# Altium footprint library General.PcbLib: 53 footprints (part 2 of 4)
Each footprint in its own frame and in the unit in brackets; x right, y up, seen from the top. Pads: shape width x height; smd on the part's side, far side on the other; paste and mask are expansions set on the pad; w line width, h text height; cw(c..) or ccw(c..) is an arc to the next point about the centre after c.
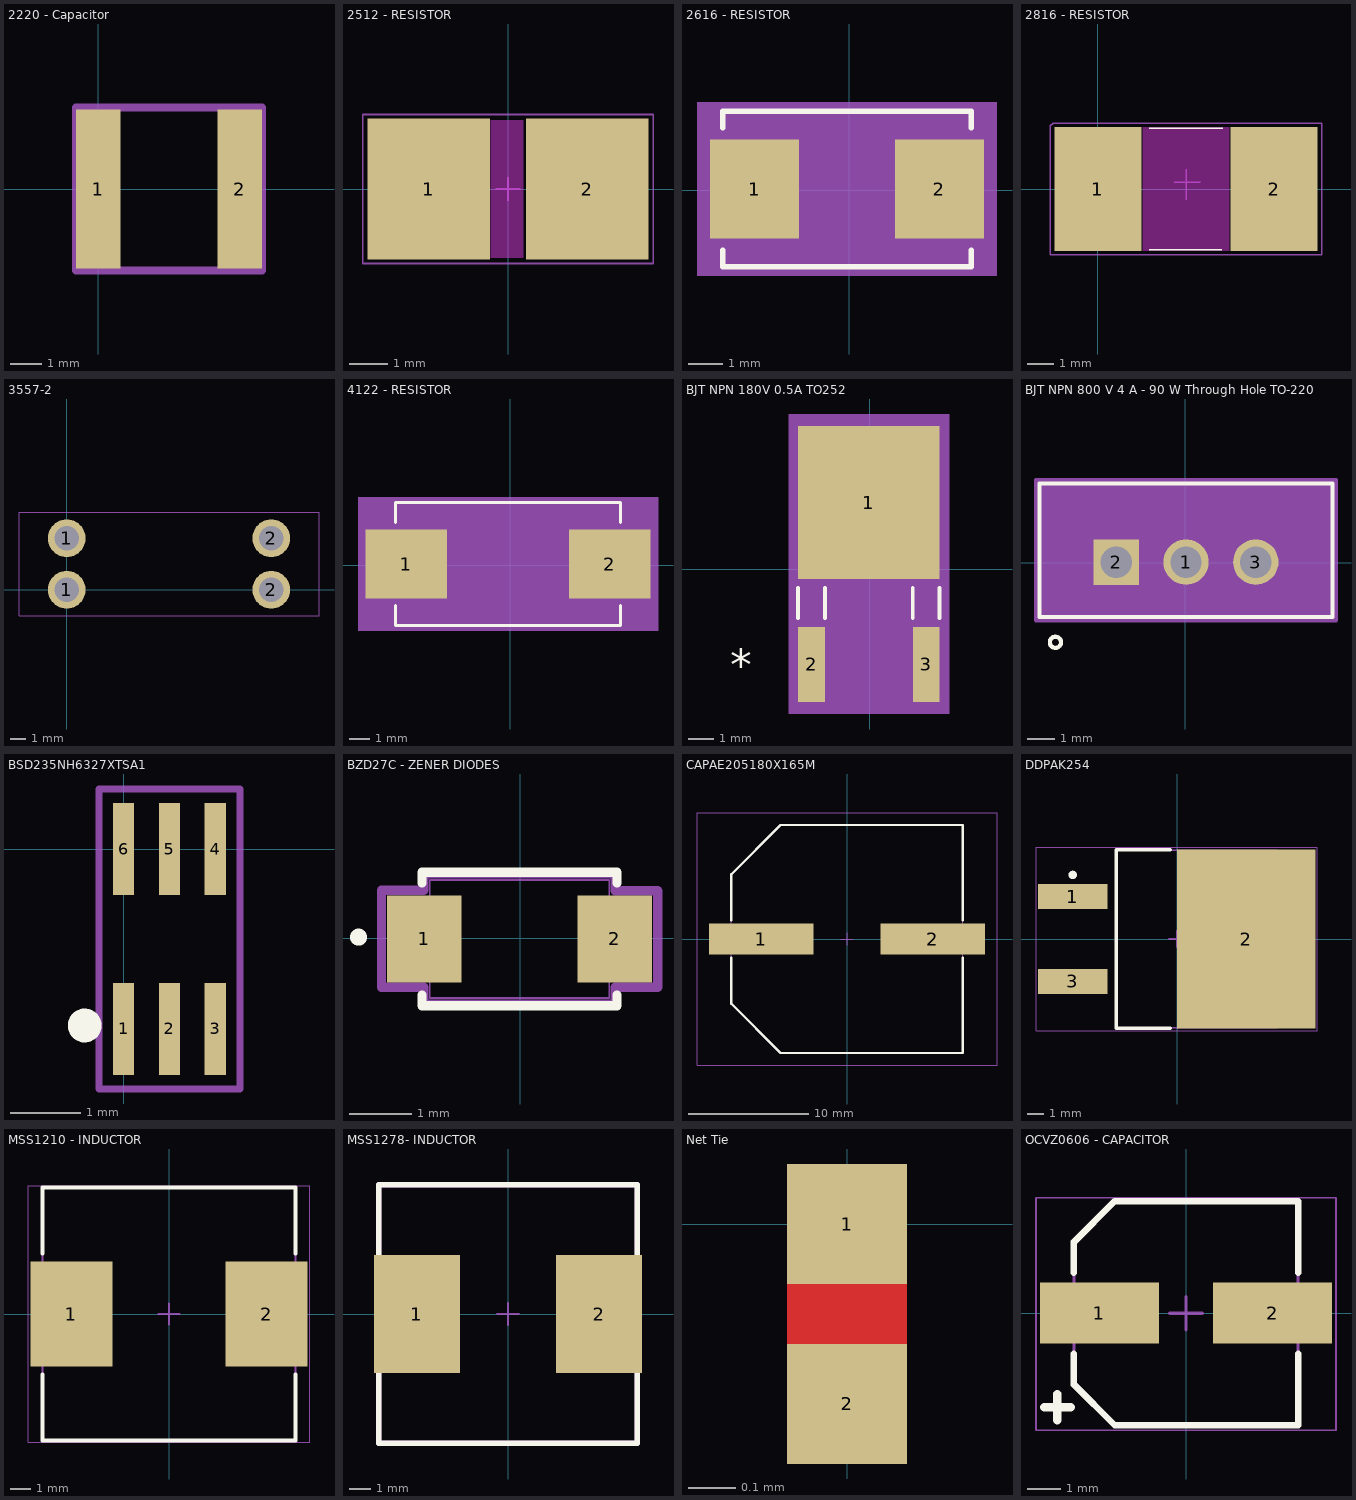
[diagram p1: the footprints below, top view; thin cyan lines are the x and y axes]

## 2220 - Capacitor [mm] "2220 Chip Capacitor - IPC Medium Density"
pads (2):
  rect 1.4x5 all layers, no hole: 1(0,0) 2(4.45,0)
Mechanical 15:
  lines w0.254: -0.698,-2.573 5.148,-2.573 5.148,2.573 -0.698,2.573 -0.698,-2.573

## 2512 - RESISTOR [mm]
pads (2):
  rect 3.2x3.7 smd: 1(-2.075,0) 2(2.075,0)
Top Layer keep-out:
  region: -0.45,1.8 -0.45,-1.8 0.4,-1.8 0.4,1.8
Mechanical 15:
  lines w0.05: -0.3,0 0.3,0 ; 0,-0.3 0,0.3 ; -3.8,-1.95 3.8,-1.95 3.8,1.95 -3.8,1.95 -3.8,-1.95
3D body "R_2512_6332Metric.step": height 0.6, standoff 0, extent -3.15,-1.6 3.15,1.6

## 2616 - RESISTOR [mil]
pads (2):
  rect 102.5x114 smd paste+0 mask+0: 1(-108.73,1.26) 2(103.77,1.26)
Top Overlay:
  lines w6: -145.48,-68.84 -145.48,-88.24 140.52,-88.24 140.52,-68.84 ; -145.48,71.36 -145.48,90.76 140.52,90.76 140.52,71.36
Mechanical 5:
  region: 170.02,-98.24 -174.98,-98.24 -174.98,100.76 170.02,100.76
Mechanical 13:
  lines w1: -140.48,-83.24 -140.48,85.76 135.52,85.76 135.52,-83.24 -140.48,-83.24
Mechanical 15:
  region: -150.48,-65.74 -169.98,-65.74 -169.98,68.26 -150.48,68.26 -150.48,95.76 145.52,95.76 145.52,68.26 165.02,68.26 165.02,-65.74 145.52,-65.74 145.52,-93.24 -150.48,-93.24
  lines w6: -169.98,-65.74 -150.48,-65.74 -150.48,-93.24 145.52,-93.24 145.52,-65.74 165.02,-65.74 165.02,68.26 145.52,68.26 145.52,95.76 -150.48,95.76 -150.48,68.26 -169.98,68.26 -169.98,-65.74
3D body "RES_SMF2_TYCO_TYC.step": height 152.01, standoff 0, extent -140.47,-83.23 135.51,85.75

## 2816 - RESISTOR [mm]
pads (2):
  rect 3.3x4.7 smd: 1(0,0) 2(6.7,0)
Top Layer keep-out:
  region: 1.7,2.35 1.7,-2.35 5,-2.35 5,2.35
Top Overlay:
  lines w0.05: 1.95,-2.3 4.7,-2.3 ; 1.95,2.3 4.75,2.3
Mechanical 15:
  lines w0.05: 2.9,0.25 3.9,0.25 ; 3.35,-0.4 3.35,0.75 ; -1.8,-2.5 -1.8,2.4 -1.7,2.5 8.5,2.5 8.5,-2.5 -1.8,-2.5
3D body "c-2176402-8-a-3d.stp": height 1.1, standoff 0, extent -0.25,-2.1 6.85,2.1

## 3557-2 [mm] "Fuse Holder"
pads (4):
  round 2.5 hole 1.6: 1(0,0) 1(0,3.4) 2(13.5,0) 2(13.5,3.4)
Mechanical 15:
  lines w0.05: -3.15,-1.7 16.65,-1.7 16.65,5.1 -3.15,5.1 -3.15,-1.7

## 4122 - RESISTOR [mil]
pads (2):
  rect 157.5x134 smd paste+0 mask+0: 1(-201.04,2.09) 2(192.46,2.09)
Top Overlay:
  lines w6: -221.79,-78.01 -221.79,-116.91 213.21,-116.91 213.21,-78.01 ; -221.79,82.19 -221.79,121.09 213.21,121.09 213.21,82.19
Mechanical 5:
  region: 286.21,-126.91 -294.79,-126.91 -294.79,131.09 286.21,131.09
Mechanical 13:
  lines w1: -216.79,-111.91 208.21,-111.91 208.21,116.09 -216.79,116.09 -216.79,-111.91
Mechanical 15:
  region: -226.79,-74.91 -289.79,-74.91 -289.79,79.09 -226.79,79.09 -226.79,126.09 218.21,126.09 218.21,79.09 281.21,79.09 281.21,-74.91 218.21,-74.91 218.21,-121.91 -226.79,-121.91
  lines w6: -289.79,-74.91 -289.79,79.09 -226.79,79.09 -226.79,126.09 218.21,126.09 218.21,79.09 281.21,79.09 281.21,-74.91 218.21,-74.91 218.21,-121.91 -226.79,-121.91 -226.79,-74.91 -289.79,-74.91
3D body "RES_SMF3_TYCO_TYC.step": height 209.02, standoff 0, extent -216.81,-111.93 208.23,116.1

## BJT NPN 180V 0.5A TO252 [mil] "DXT696BK"
pads (3):
  rect 222x240 smd paste+0 mask+0: 1(-1.42,104.42)
  rect 42x117.75 smd paste+0 mask+0: 2(-91.42,-149.61) 3(88.58,-149.61)
Top Overlay:
  lines w6: -112.42,-76.74 -112.42,-29.58 ; -70.42,-76.74 -70.42,-29.58 ; 67.58,-76.74 67.58,-29.58 ; 109.58,-76.74 109.58,-29.58
  text "*" at -218.92,-174.61 h50
Mechanical 5:
  region: -127.42,243.42 124.58,243.42 124.58,-227.49 -127.42,-227.49
Mechanical 13:
  lines w1: -112.42,-5.58 -70.42,-5.58 -70.42,-202.58 -112.42,-202.58 -112.42,-5.58 ; -112.42,-5.58 109.58,-5.58 ; -112.42,-5.58 -112.42,218.42 109.58,218.42 109.58,-5.58 ; 109.58,-5.58 67.58,-5.58 67.58,-202.58 109.58,-202.58 109.58,-5.58
  text "*" at -103.92,-20.58 h50
Mechanical 15:
  region: -116.42,-19.58 -116.42,228.42 113.58,228.42 113.58,-19.58 113.58,-212.49 63.58,-212.49 63.58,-94.74 -66.42,-94.74 -66.42,-212.49 -116.42,-212.49
  lines w6: -116.42,-212.49 -66.42,-212.49 -66.42,-94.74 63.58,-94.74 63.58,-212.49 113.58,-212.49 113.58,-19.58 113.58,228.42 -116.42,228.42 -116.42,-19.58 -116.42,-212.49
3D body "TO-252_DIO.step": height 94.09, standoff -2.01, extent -112.4,-105.08 109.57,218.5

## BJT NPN 800 V 4 A - 90 W Through Hole TO-220 [mil]
pads (3):
  round 65 hole 45: 1(0.94,0.83) 3(100.94,0.83)
  rect 65x65 hole 45: 2(-99.06,0.83)
Top Overlay:
  circle w6: c-186.22,-114.17 r8
  lines w6: -209.06,-77.67 -209.06,113.33 210.94,113.33 210.94,-77.67 -209.06,-77.67
Mechanical 5:
  region: -209.06,113.33 210.94,113.33 210.94,-77.67 -209.06,-77.67
Mechanical 13:
  circle w0: c-184.06,0.83 r8
  lines w1: -204.06,-72.67 -204.06,108.33 205.94,108.33 205.94,-72.67 -204.06,-72.67
  lines w6: -109.06,0.83 -89.06,0.83 ; -99.06,-9.17 -99.06,10.83
Mechanical 15:
  region: 215.94,-82.67 -214.06,-82.67 -214.06,118.33 215.94,118.33
  lines w6: -214.06,-82.67 215.94,-82.67 215.94,118.33 -214.06,118.33 -214.06,-82.67
3D body "TO-220_STM.step": height 775.98, standoff -255, extent -204.06,-72.68 205.94,108.35

## BSD235NH6327XTSA1 [mm] "SOT-363"
pads (6):
  rect 0.3x1.3 smd: 1(0,-2.55) 2(0.65,-2.55) 3(1.3,-2.55) 4(1.3,0) 5(0.65,0) 6(0,0)
Top Overlay:
  circle w0.254: c-0.55,-2.5 r0.112
Mechanical 15:
  lines w0.1: -0.35,-3.4 -0.35,0.85 1.65,0.85 1.65,-3.4 -0.35,-3.4
3D body "SOT-363_SC-70-6.step": height 1.05, standoff 0, extent -0.35,-2.25 1.65,-0.25

## BZD27C - ZENER DIODES [mm]
pads (2):
  rect 1.2x1.4 smd paste+0 mask+0: 1(-1.548,-0.009) 2(1.526,-0.009)
Top Overlay:
  circle w0.254: c-2.61,0.02 r0.01
  lines w0.152: -1.586,-0.913 -1.586,-1.088 1.564,-1.088 1.564,-0.913 ; -1.586,0.895 -1.586,1.071 1.564,1.071 1.564,0.895
Mechanical 13:
  lines w0.025: -1.459,-0.606 -1.459,0.588 ; 1.437,-0.606 1.437,0.588 ; -1.459,-0.961 1.437,-0.961 1.437,0.944 -1.459,0.944 -1.459,-0.961
Mechanical 15:
  lines w0.152: -2.24,-0.79 -2.24,0.78 -1.56,0.78 -1.56,1.045 1.538,1.045 1.538,0.77 2.22,0.77 2.22,-0.79 1.538,-0.79 1.538,-1.063 -1.56,-1.063 -1.56,-0.79 -2.24,-0.79
3D body: height 0.25, standoff 0, extent -0.011,-0.009 0.243,0.245
3D body "CR_2PRVG_TWS.step": height 1.43, standoff 0, extent -1.915,-0.972 1.895,0.932

## CAPAE205180X165M [mm] "Aluminum Electrolytic Capacitor, Body 18.65x18.00x16.50mm, IPC Low Density"
height 16.5
pads (2):
  rect 8.7x2.55 smd: 1(-7.15,0) 2(7.15,0)
Top Overlay:
  lines w0.2: -9.65,-1.575 -9.65,-5.387 -5.537,-9.5 9.65,-9.5 9.65,-1.575 ; -9.65,1.575 -9.65,5.388 -5.537,9.5 9.65,9.5 9.65,1.575
Mechanical 13:
  lines w0.1: -9.65,-5.387 -5.537,-9.5 9.65,-9.5 9.65,9.5 -5.537,9.5 -9.65,5.388 -9.65,-5.387
Mechanical 15:
  lines w0.05: -12.5,-10.5 -12.5,10.5 12.5,10.5 12.5,-10.5 -12.5,-10.5
  lines w0.1: -0.5,0 0.5,0 ; 0,-0.5 0,0.5
3D body "CAPAE205180X165M.step": height 16.5, standoff -1.6, extent -10.25,-9.5 10.25,9.5

## DDPAK254 [mm] "D2-PAK, 3-Pads, Body 7.93x8.70mm (max), IPC Medium Density"
height 4.83
pads (3):
  rect 4.15x1.5 smd: 1(-6.25,2.54) 3(-6.25,-2.54)
  rect 8.3x10.75 smd: 2(4.15,0)
Top Overlay:
  circle w0.25: c-6.25,3.84 r0.125
  lines w0.2: -0.4,-5.35 -3.65,-5.35 -3.65,5.35 -0.4,5.35
Mechanical 13:
  lines w0.1: -3.65,-5.325 6,-5.325 6,5.325 -3.65,5.325 -3.65,-5.325
Mechanical 15:
  lines w0.05: -8.45,-5.5 8.4,-5.5 8.4,5.5 -8.45,5.5 -8.45,-5.5
  lines w0.1: -0.5,0 0.5,0 ; 0,-0.5 0,0.5
3D body "DPAK254P1524X483-3N.step": height 4.96, standoff 0, extent -6.92,-5.325 8.325,5.325

## MSS1210 - INDUCTOR [mm] "Precision Wire Wound Inductor, 2-Leads, Body 12.00x12.00mm, IPC Medium Density"
height 10.2
pads (2):
  rect 4x5.1 smd: 1(-4.75,0) 2(4.75,0)
Top Overlay:
  lines w0.2: -6.15,-2.95 -6.15,-6.15 6.15,-6.15 6.15,-2.95 ; -6.15,2.95 -6.15,6.15 6.15,6.15 6.15,2.95
Mechanical 13:
  lines w0.1: -6.15,-6.15 -6.15,6.15 6.15,6.15 6.15,-6.15 -6.15,-6.15
Mechanical 15:
  lines w0.05: -6.85,-6.25 -6.85,6.25 6.85,6.25 6.85,-6.25 -6.85,-6.25
  lines w0.1: -0.5,0 0.5,0 ; 0,-0.5 0,0.5
3D body "Coilcraft-MSS1210.step": height 10.16, standoff -0.04, extent -6.15,-6.15 6.15,6.15

## MSS1278- INDUCTOR [mm] "Fixed Inductors 33uH Shld 20% 3.1A 68.8mOhms AECQ2"
height 8.05
pads (2):
  rect 4x5.5 smd: 1(-4.25,0) 2(4.25,0)
Top Overlay:
  lines w0.254: -6.023,-6.023 6.023,-6.023 6.023,6.023 -6.023,6.023 -6.023,-6.023
Mechanical 15:
  lines w0.1: -0.5,0 0.5,0 ; 0,-0.5 0,0.5
  lines w0.254: -6.023,-6.023 6.023,-6.023 6.023,6.023 -6.023,6.023 -6.023,-6.023

## Net Tie [mil] "General Net TIe"
pads (2):
  rect 10x10 smd mask+0: 1(0,0) 2(0,-15)
Top Layer:
  lines w10: 0,-15 0,0

## OCVZ0606 - CAPACITOR [mm] "Aluminum Electrolytic Capacitor, Body 6.60x6.60x6.00mm, IPC Low Density"
height 6
pads (2):
  rect 3.6x1.85 smd: 1(-2.625,0) 2(2.625,0)
Top Overlay:
  lines w0.2: -3.4,-1.225 -3.4,-2.163 -2.163,-3.4 3.4,-3.4 3.4,-1.225 ; -3.4,1.225 -3.4,2.163 -2.163,3.4 3.4,3.4 3.4,1.225
  lines w0.254: -4.3,-2.85 -3.5,-2.85 ; -3.9,-3.25 -3.9,-2.45
Mechanical 13:
  lines w0.1: -3.4,-2.163 -2.163,-3.4 3.4,-3.4 3.4,3.4 -2.163,3.4 -3.4,2.163 -3.4,-2.163
Mechanical 15:
  lines w0.05: -4.55,-3.55 -4.55,3.5 4.55,3.5 4.55,-3.55 -4.55,-3.55
  lines w0.1: -0.5,0 0.5,0 ; 0,-0.5 0,0.5
3D body "OCVZ0606 - CAPACITOR.step": height 6, standoff 0, extent -3.6,-3.4 3.6,3.4